# Altium integrated library 0537480208.IntLib: 1 symbol
Pins are listed as number, name and electrical type; pins without a type are passive.

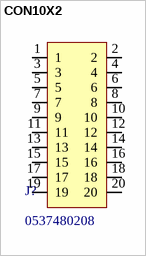
[diagram p0: symbol CON10X2]

## CON10X2
designator J?, comment 0537480208
PDF: http://www.molex.com/pdm_docs/sd/537480208_sd.pdf; BUY_LINK: http://www.digikey.com/product-detail/en/0537480208/WM9209CT-ND/1025175; PRICE: 2.26000; ID: 0537480208
footprint 0537480208
pins: 1, 2, 3, 4, 5, 6, 7, 8, 9, 10, 11, 12, 13, 14, 15, 16, 17, 18, 19, 20